# Altium schematic symbol library Microchip PIC12.SchLib: 457 symbols (part 6 of 15)
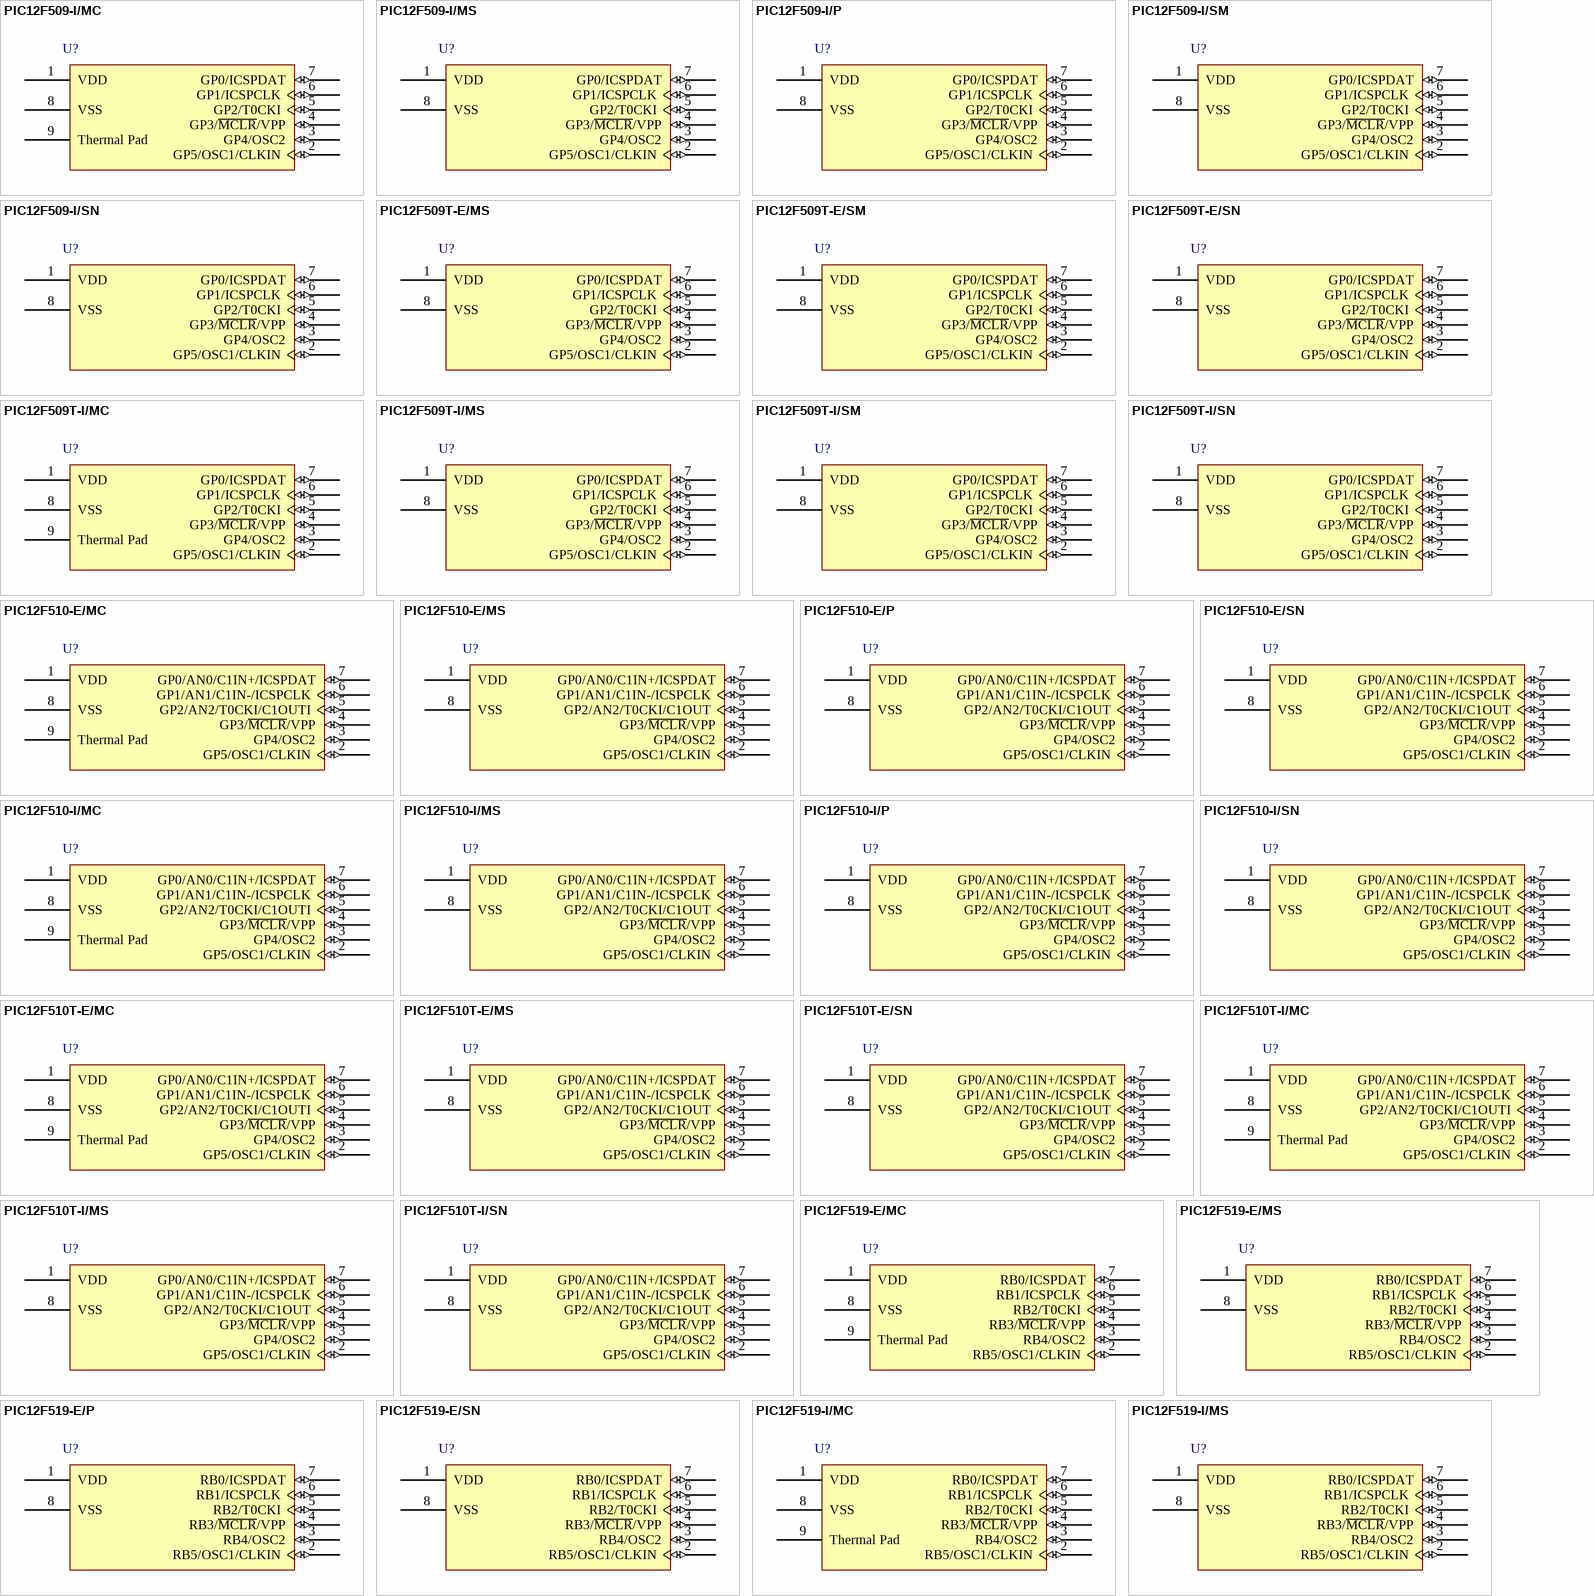
[diagram p20: symbols PIC12F509-I/MC to PIC12F519-I/MS]

## PIC12F509-I/SN
designator U?
8-bit Flash Microcontroller, 1K (x12-Bit words) Program Memory, 41 Bytes Data Memory, 8-Pin SOIC, Industrial Temperature; Manufacturer: Microchip; PartNumber: PIC12F509-I/SN; DatasheetVersion: revE, Aug-2009; PackageVersion: revBB, Aug-2009; PackageReference: SOIC-SN8; PackageDescription: 8-Lead Plastic Small Outline (SN) - Narrow, 3.90mm Body [SOIC]; Code_JEDEC: MS-012; Code_IPC: SOIC127P600-8; ComponentLink1Description: Manufacturer URL; ComponentLink1URL: http://www.microchip.com/; ComponentLink2Description: Datasheet; ComponentLink2URL: http://ww1.microchip.com/downloads/en/DeviceDoc/41236E.pdf; ComponentLink3Description: Package Specification; ComponentLink3URL: http://www.microchip.com/stellent/groups/techpub_sg/documents/packagingspec/en012702.pdf
footprint SOIC-SN8_N (SOIC, 8-Leads, Body 4.9x3.8mm, Pitch 1.27mm, IPC Medium Density)
footprint SOIC-SN8_L (SOIC, 8-Leads, Body 4.9x3.8mm, Pitch 1.27mm, IPC High Density)
footprint SOIC-SN8_M (SOIC, 8-Leads, Body 4.9x3.8mm, Pitch 1.27mm, IPC Low Density)
pins: 1 VDD (power), 2 GP5/OSC1/CLKIN (io), 3 GP4/OSC2 (io), 4 GP3/~{MCLR}/VPP (io), 5 GP2/T0CKI (io), 6 GP1/ICSPCLK (io), 7 GP0/ICSPDAT (io), 8 VSS (power)

## PIC12F509T-E/MS
designator U?
8-bit Flash Microcontroller, 1K (x12-Bit words) Program Memory, 41 Bytes Data Memory, 8-Pin MSOP, Extended Temperature, Tape and Reel; Manufacturer: Microchip; PartNumber: PIC12F509T-E/MS; DatasheetVersion: revE, Aug-2009; PackageVersion: revBB, Aug-2009; PackageReference: MSOP-MS8; PackageDescription: 8-Lead Plastic Micro Small Outline Package (MS) [MSOP]; ComponentLink1Description: Manufacturer URL; ComponentLink1URL: http://www.microchip.com/; ComponentLink2Description: Datasheet; ComponentLink2URL: http://ww1.microchip.com/downloads/en/DeviceDoc/41236E.pdf; ComponentLink3Description: Package Specification; ComponentLink3URL: http://www.microchip.com/stellent/groups/techpub_sg/documents/packagingspec/en012702.pdf
footprint MSOP-MS8_N (TSOP, 8-Leads, Body 3x3mm, Pitch 0.65mm, IPC Medium Density)
footprint MSOP-MS8_L (TSOP, 8-Leads, Body 3x3mm, Pitch 0.65mm, IPC High Density)
footprint MSOP-MS8_M (TSOP, 8-Leads, Body 3x3mm, Pitch 0.65mm, IPC Low Density)
pins: 1 VDD (power), 2 GP5/OSC1/CLKIN (io), 3 GP4/OSC2 (io), 4 GP3/~{MCLR}/VPP (io), 5 GP2/T0CKI (io), 6 GP1/ICSPCLK (io), 7 GP0/ICSPDAT (io), 8 VSS (power)

## PIC12F509T-E/SM
designator U?
8-bit Flash Microcontroller, 1K (x12-Bit words) Program Memory, 41 Bytes Data Memory, 8-Pin SOIC, Extended Temperature, Tape and Reel; Manufacturer: Microchip; PartNumber: PIC12F509T-E/SM; DatasheetVersion: revE, Aug-2009; PackageVersion: revBB, Aug-2009; PackageReference: SOIJ-SM8; PackageDescription: 8-Lead Plastic Small Outline (SM) - Medium, 5.28 mm Body [SOIJ]; ComponentLink1Description: Manufacturer URL; ComponentLink1URL: http://www.microchip.com/; ComponentLink2Description: Datasheet; ComponentLink2URL: http://ww1.microchip.com/downloads/en/DeviceDoc/41236E.pdf; ComponentLink3Description: Package Specification; ComponentLink3URL: http://www.microchip.com/stellent/groups/techpub_sg/documents/packagingspec/en012702.pdf
footprint SOIJ-SM8_N (SOP, 8-Leads, Body 5.2x5.2mm, Pitch 1.27mm, IPC Medium Density)
footprint SOIJ-SM8_L (SOP, 8-Leads, Body 5.2x5.2mm, Pitch 1.27mm, IPC High Density)
footprint SOIJ-SM8_M (SOP, 8-Leads, Body 5.2x5.2mm, Pitch 1.27mm, IPC Low Density)
pins: 1 VDD (power), 2 GP5/OSC1/CLKIN (io), 3 GP4/OSC2 (io), 4 GP3/~{MCLR}/VPP (io), 5 GP2/T0CKI (io), 6 GP1/ICSPCLK (io), 7 GP0/ICSPDAT (io), 8 VSS (power)

## PIC12F509T-E/SN
designator U?
8-bit Flash Microcontroller, 1K (x12-Bit words) Program Memory, 41 Bytes Data Memory, 8-Pin SOIC, Extended Temperature, Tape and Reel; Manufacturer: Microchip; PartNumber: PIC12F509T-E/SN; DatasheetVersion: revE, Aug-2009; PackageVersion: revBB, Aug-2009; PackageReference: SOIC-SN8; PackageDescription: 8-Lead Plastic Small Outline (SN) - Narrow, 3.90mm Body [SOIC]; Code_JEDEC: MS-012; Code_IPC: SOIC127P600-8; ComponentLink1Description: Manufacturer URL; ComponentLink1URL: http://www.microchip.com/; ComponentLink2Description: Datasheet; ComponentLink2URL: http://ww1.microchip.com/downloads/en/DeviceDoc/41236E.pdf; ComponentLink3Description: Package Specification; ComponentLink3URL: http://www.microchip.com/stellent/groups/techpub_sg/documents/packagingspec/en012702.pdf
footprint SOIC-SN8_N (SOIC, 8-Leads, Body 4.9x3.8mm, Pitch 1.27mm, IPC Medium Density)
footprint SOIC-SN8_L (SOIC, 8-Leads, Body 4.9x3.8mm, Pitch 1.27mm, IPC High Density)
footprint SOIC-SN8_M (SOIC, 8-Leads, Body 4.9x3.8mm, Pitch 1.27mm, IPC Low Density)
pins: 1 VDD (power), 2 GP5/OSC1/CLKIN (io), 3 GP4/OSC2 (io), 4 GP3/~{MCLR}/VPP (io), 5 GP2/T0CKI (io), 6 GP1/ICSPCLK (io), 7 GP0/ICSPDAT (io), 8 VSS (power)

## PIC12F509T-I/MC
designator U?
8-bit Flash Microcontroller, 1K (x12-Bit words) Program Memory, 41 Bytes Data Memory, 8-Pin DFN, Industrial Temperature, Tape and Reel; Manufacturer: Microchip; PartNumber: PIC12F509T-I/MC; DatasheetVersion: revE, Aug-2009; PackageVersion: revBB, Aug-2009; PackageReference: DFN-MC8; PackageDescription: 8-Lead Plastic Dual Flat, No Lead Package (MC) - 2x3x0.9mm Body [DFN]; ComponentLink1Description: Manufacturer URL; ComponentLink1URL: http://www.microchip.com/; ComponentLink2Description: Datasheet; ComponentLink2URL: http://ww1.microchip.com/downloads/en/DeviceDoc/41236E.pdf; ComponentLink3Description: Package Specification; ComponentLink3URL: http://www.microchip.com/stellent/groups/techpub_sg/documents/packagingspec/en012702.pdf
footprint DFN-MC8 (SON, 8-Leads, Body 2x3mm, Pitch 0.5mm, Microchip Recommended)
pins: 1 VDD (power), 2 GP5/OSC1/CLKIN (io), 3 GP4/OSC2 (io), 4 GP3/~{MCLR}/VPP (io), 5 GP2/T0CKI (io), 6 GP1/ICSPCLK (io), 7 GP0/ICSPDAT (io), 8 VSS (power), 9 Thermal Pad

## PIC12F509T-I/MS
designator U?
8-bit Flash Microcontroller, 1K (x12-Bit words) Program Memory, 41 Bytes Data Memory, 8-Pin MSOP, Industrial Temperature, Tape and Reel; Manufacturer: Microchip; PartNumber: PIC12F509T-I/MS; DatasheetVersion: revE, Aug-2009; PackageVersion: revBB, Aug-2009; PackageReference: MSOP-MS8; PackageDescription: 8-Lead Plastic Micro Small Outline Package (MS) [MSOP]; ComponentLink1Description: Manufacturer URL; ComponentLink1URL: http://www.microchip.com/; ComponentLink2Description: Datasheet; ComponentLink2URL: http://ww1.microchip.com/downloads/en/DeviceDoc/41236E.pdf; ComponentLink3Description: Package Specification; ComponentLink3URL: http://www.microchip.com/stellent/groups/techpub_sg/documents/packagingspec/en012702.pdf
footprint MSOP-MS8_N (TSOP, 8-Leads, Body 3x3mm, Pitch 0.65mm, IPC Medium Density)
footprint MSOP-MS8_L (TSOP, 8-Leads, Body 3x3mm, Pitch 0.65mm, IPC High Density)
footprint MSOP-MS8_M (TSOP, 8-Leads, Body 3x3mm, Pitch 0.65mm, IPC Low Density)
pins: 1 VDD (power), 2 GP5/OSC1/CLKIN (io), 3 GP4/OSC2 (io), 4 GP3/~{MCLR}/VPP (io), 5 GP2/T0CKI (io), 6 GP1/ICSPCLK (io), 7 GP0/ICSPDAT (io), 8 VSS (power)

## PIC12F509T-I/SM
designator U?
8-bit Flash Microcontroller, 1K (x12-Bit words) Program Memory, 41 Bytes Data Memory, 8-Pin SOIC, Industrial Temperature, Tape and Reel; Manufacturer: Microchip; PartNumber: PIC12F509T-I/SM; DatasheetVersion: revE, Aug-2009; PackageVersion: revBB, Aug-2009; PackageReference: SOIJ-SM8; PackageDescription: 8-Lead Plastic Small Outline (SM) - Medium, 5.28 mm Body [SOIJ]; ComponentLink1Description: Manufacturer URL; ComponentLink1URL: http://www.microchip.com/; ComponentLink2Description: Datasheet; ComponentLink2URL: http://ww1.microchip.com/downloads/en/DeviceDoc/41236E.pdf; ComponentLink3Description: Package Specification; ComponentLink3URL: http://www.microchip.com/stellent/groups/techpub_sg/documents/packagingspec/en012702.pdf
footprint SOIJ-SM8_N (SOP, 8-Leads, Body 5.2x5.2mm, Pitch 1.27mm, IPC Medium Density)
footprint SOIJ-SM8_L (SOP, 8-Leads, Body 5.2x5.2mm, Pitch 1.27mm, IPC High Density)
footprint SOIJ-SM8_M (SOP, 8-Leads, Body 5.2x5.2mm, Pitch 1.27mm, IPC Low Density)
pins: 1 VDD (power), 2 GP5/OSC1/CLKIN (io), 3 GP4/OSC2 (io), 4 GP3/~{MCLR}/VPP (io), 5 GP2/T0CKI (io), 6 GP1/ICSPCLK (io), 7 GP0/ICSPDAT (io), 8 VSS (power)

## PIC12F509T-I/SN
designator U?
8-bit Flash Microcontroller, 1K (x12-Bit words) Program Memory, 41 Bytes Data Memory, 8-Pin SOIC, Industrial Temperature, Tape and Reel; Manufacturer: Microchip; PartNumber: PIC12F509T-I/SN; DatasheetVersion: revE, Aug-2009; PackageVersion: revBB, Aug-2009; PackageReference: SOIC-SN8; PackageDescription: 8-Lead Plastic Small Outline (SN) - Narrow, 3.90mm Body [SOIC]; Code_JEDEC: MS-012; Code_IPC: SOIC127P600-8; ComponentLink1Description: Manufacturer URL; ComponentLink1URL: http://www.microchip.com/; ComponentLink2Description: Datasheet; ComponentLink2URL: http://ww1.microchip.com/downloads/en/DeviceDoc/41236E.pdf; ComponentLink3Description: Package Specification; ComponentLink3URL: http://www.microchip.com/stellent/groups/techpub_sg/documents/packagingspec/en012702.pdf
footprint SOIC-SN8_N (SOIC, 8-Leads, Body 4.9x3.8mm, Pitch 1.27mm, IPC Medium Density)
footprint SOIC-SN8_L (SOIC, 8-Leads, Body 4.9x3.8mm, Pitch 1.27mm, IPC High Density)
footprint SOIC-SN8_M (SOIC, 8-Leads, Body 4.9x3.8mm, Pitch 1.27mm, IPC Low Density)
pins: 1 VDD (power), 2 GP5/OSC1/CLKIN (io), 3 GP4/OSC2 (io), 4 GP3/~{MCLR}/VPP (io), 5 GP2/T0CKI (io), 6 GP1/ICSPCLK (io), 7 GP0/ICSPDAT (io), 8 VSS (power)

## PIC12F510-E/MC
designator U?
8-bit Flash Microcontroller, 1 K (x12-Bit words) Program Memory, 38 Bytes Data Memory, 8-Pin DFN, Extended Temperature; Manufacturer: Microchip; PartNumber: PIC12F510-E/MC; DatasheetVersion: revD, Nov-2007; PackageVersion: revBB, Aug-2009; PackageReference: DFN-MC8; PackageDescription: 8-Lead Plastic Dual Flat, No Lead Package (MC) - 2x3x0.9mm Body [DFN]; ComponentLink1Description: Manufacturer URL; ComponentLink1URL: http://www.microchip.com/; ComponentLink2Description: Datasheet; ComponentLink2URL: http://ww1.microchip.com/downloads/en/DeviceDoc/41268D.pdf; ComponentLink3Description: Package Specification; ComponentLink3URL: http://www.microchip.com/stellent/groups/techpub_sg/documents/packagingspec/en012702.pdf
footprint DFN-MC8 (SON, 8-Leads, Body 2x3mm, Pitch 0.5mm, Microchip Recommended)
pins: 1 VDD (power), 2 GP5/OSC1/CLKIN (io), 3 GP4/OSC2 (io), 4 GP3/~{MCLR}/VPP (io), 5 GP2/AN2/T0CKI/C1OUTI (io), 6 GP1/AN1/C1IN-/ICSPCLK (io), 7 GP0/AN0/C1IN+/ICSPDAT (io), 8 VSS (power), 9 Thermal Pad

## PIC12F510-E/MS
designator U?
8-bit Flash Microcontroller, 1 K (x12-Bit words) Program Memory, 38 Bytes Data Memory, 8-Pin MSOP, Extended Temperature; Manufacturer: Microchip; PartNumber: PIC12F510-E/MS; DatasheetVersion: revD, Nov-2007; PackageVersion: revBB, Aug-2009; PackageReference: MSOP-MS8; PackageDescription: 8-Lead Plastic Micro Small Outline Package (MS) [MSOP]; ComponentLink1Description: Manufacturer URL; ComponentLink1URL: http://www.microchip.com/; ComponentLink2Description: Datasheet; ComponentLink2URL: http://ww1.microchip.com/downloads/en/DeviceDoc/41268D.pdf; ComponentLink3Description: Package Specification; ComponentLink3URL: http://www.microchip.com/stellent/groups/techpub_sg/documents/packagingspec/en012702.pdf
footprint MSOP-MS8_N (TSOP, 8-Leads, Body 3x3mm, Pitch 0.65mm, IPC Medium Density)
footprint MSOP-MS8_L (TSOP, 8-Leads, Body 3x3mm, Pitch 0.65mm, IPC High Density)
footprint MSOP-MS8_M (TSOP, 8-Leads, Body 3x3mm, Pitch 0.65mm, IPC Low Density)
pins: 1 VDD (power), 2 GP5/OSC1/CLKIN (io), 3 GP4/OSC2 (io), 4 GP3/~{MCLR}/VPP (io), 5 GP2/AN2/T0CKI/C1OUT (io), 6 GP1/AN1/C1IN-/ICSPCLK (io), 7 GP0/AN0/C1IN+/ICSPDAT (io), 8 VSS (power)

## PIC12F510-E/P
designator U?
8-bit Flash Microcontroller, 1 K (x12-Bit words) Program Memory, 38 Bytes Data Memory, 8-Pin PDIP, Extended Temperature; Manufacturer: Microchip; PartNumber: PIC12F510-E/P; DatasheetVersion: revD, Nov-2007; PackageVersion: revBB, Aug-2009; PackageReference: PDIP300-P8; PackageDescription: 8-Lead Plastic Dual In-Line (P) - 300 mil Body [PDIP]; Code_JEDEC: MS-001; ComponentLink1Description: Manufacturer URL; ComponentLink1URL: http://www.microchip.com/; ComponentLink2Description: Datasheet; ComponentLink2URL: http://ww1.microchip.com/downloads/en/DeviceDoc/41268D.pdf; ComponentLink3Description: Package Specification; ComponentLink3URL: http://www.microchip.com/stellent/groups/techpub_sg/documents/packagingspec/en012702.pdf
footprint PDIP300-P8 (DIP, 8-Leads, Row Spacing 7.62mm, Pitch 2.54mm, Body 9.5x6.6mm)
pins: 1 VDD (power), 2 GP5/OSC1/CLKIN (io), 3 GP4/OSC2 (io), 4 GP3/~{MCLR}/VPP (io), 5 GP2/AN2/T0CKI/C1OUT (io), 6 GP1/AN1/C1IN-/ICSPCLK (io), 7 GP0/AN0/C1IN+/ICSPDAT (io), 8 VSS (power)

## PIC12F510-E/SN
designator U?
8-bit Flash Microcontroller, 1 K (x12-Bit words) Program Memory, 38 Bytes Data Memory, 8-Pin SOIC, Extended Temperature; Manufacturer: Microchip; PartNumber: PIC12F510-E/SN; DatasheetVersion: revD, Nov-2007; PackageVersion: revBB, Aug-2009; PackageReference: SOIC-SN8; PackageDescription: 8-Lead Plastic Small Outline (SN) - Narrow, 3.90mm Body [SOIC]; Code_JEDEC: MS-012; Code_IPC: SOIC127P600-8; ComponentLink1Description: Manufacturer URL; ComponentLink1URL: http://www.microchip.com/; ComponentLink2Description: Datasheet; ComponentLink2URL: http://ww1.microchip.com/downloads/en/DeviceDoc/41268D.pdf; ComponentLink3Description: Package Specification; ComponentLink3URL: http://www.microchip.com/stellent/groups/techpub_sg/documents/packagingspec/en012702.pdf
footprint SOIC-SN8_N (SOIC, 8-Leads, Body 4.9x3.8mm, Pitch 1.27mm, IPC Medium Density)
footprint SOIC-SN8_L (SOIC, 8-Leads, Body 4.9x3.8mm, Pitch 1.27mm, IPC High Density)
footprint SOIC-SN8_M (SOIC, 8-Leads, Body 4.9x3.8mm, Pitch 1.27mm, IPC Low Density)
pins: 1 VDD (power), 2 GP5/OSC1/CLKIN (io), 3 GP4/OSC2 (io), 4 GP3/~{MCLR}/VPP (io), 5 GP2/AN2/T0CKI/C1OUT (io), 6 GP1/AN1/C1IN-/ICSPCLK (io), 7 GP0/AN0/C1IN+/ICSPDAT (io), 8 VSS (power)

## PIC12F510-I/MC
designator U?
8-bit Flash Microcontroller, 1 K (x12-Bit words) Program Memory, 38 Bytes Data Memory, 8-Pin DFN, Industrial Temperature; Manufacturer: Microchip; PartNumber: PIC12F510-I/MC; DatasheetVersion: revD, Nov-2007; PackageVersion: revBB, Aug-2009; PackageReference: DFN-MC8; PackageDescription: 8-Lead Plastic Dual Flat, No Lead Package (MC) - 2x3x0.9mm Body [DFN]; ComponentLink1Description: Manufacturer URL; ComponentLink1URL: http://www.microchip.com/; ComponentLink2Description: Datasheet; ComponentLink2URL: http://ww1.microchip.com/downloads/en/DeviceDoc/41268D.pdf; ComponentLink3Description: Package Specification; ComponentLink3URL: http://www.microchip.com/stellent/groups/techpub_sg/documents/packagingspec/en012702.pdf
footprint DFN-MC8 (SON, 8-Leads, Body 2x3mm, Pitch 0.5mm, Microchip Recommended)
pins: 1 VDD (power), 2 GP5/OSC1/CLKIN (io), 3 GP4/OSC2 (io), 4 GP3/~{MCLR}/VPP (io), 5 GP2/AN2/T0CKI/C1OUTI (io), 6 GP1/AN1/C1IN-/ICSPCLK (io), 7 GP0/AN0/C1IN+/ICSPDAT (io), 8 VSS (power), 9 Thermal Pad

## PIC12F510-I/MS
designator U?
8-bit Flash Microcontroller, 1 K (x12-Bit words) Program Memory, 38 Bytes Data Memory, 8-Pin MSOP, Industrial Temperature; Manufacturer: Microchip; PartNumber: PIC12F510-I/MS; DatasheetVersion: revD, Nov-2007; PackageVersion: revBB, Aug-2009; PackageReference: MSOP-MS8; PackageDescription: 8-Lead Plastic Micro Small Outline Package (MS) [MSOP]; ComponentLink1Description: Manufacturer URL; ComponentLink1URL: http://www.microchip.com/; ComponentLink2Description: Datasheet; ComponentLink2URL: http://ww1.microchip.com/downloads/en/DeviceDoc/41268D.pdf; ComponentLink3Description: Package Specification; ComponentLink3URL: http://www.microchip.com/stellent/groups/techpub_sg/documents/packagingspec/en012702.pdf
footprint MSOP-MS8_N (TSOP, 8-Leads, Body 3x3mm, Pitch 0.65mm, IPC Medium Density)
footprint MSOP-MS8_L (TSOP, 8-Leads, Body 3x3mm, Pitch 0.65mm, IPC High Density)
footprint MSOP-MS8_M (TSOP, 8-Leads, Body 3x3mm, Pitch 0.65mm, IPC Low Density)
pins: 1 VDD (power), 2 GP5/OSC1/CLKIN (io), 3 GP4/OSC2 (io), 4 GP3/~{MCLR}/VPP (io), 5 GP2/AN2/T0CKI/C1OUT (io), 6 GP1/AN1/C1IN-/ICSPCLK (io), 7 GP0/AN0/C1IN+/ICSPDAT (io), 8 VSS (power)

## PIC12F510-I/P
designator U?
8-bit Flash Microcontroller, 1 K (x12-Bit words) Program Memory, 38 Bytes Data Memory, 8-Pin PDIP, Industrial Temperature; Manufacturer: Microchip; PartNumber: PIC12F510-I/P; DatasheetVersion: revD, Nov-2007; PackageVersion: revBB, Aug-2009; PackageReference: PDIP300-P8; PackageDescription: 8-Lead Plastic Dual In-Line (P) - 300 mil Body [PDIP]; Code_JEDEC: MS-001; ComponentLink1Description: Manufacturer URL; ComponentLink1URL: http://www.microchip.com/; ComponentLink2Description: Datasheet; ComponentLink2URL: http://ww1.microchip.com/downloads/en/DeviceDoc/41268D.pdf; ComponentLink3Description: Package Specification; ComponentLink3URL: http://www.microchip.com/stellent/groups/techpub_sg/documents/packagingspec/en012702.pdf
footprint PDIP300-P8 (DIP, 8-Leads, Row Spacing 7.62mm, Pitch 2.54mm, Body 9.5x6.6mm)
pins: 1 VDD (power), 2 GP5/OSC1/CLKIN (io), 3 GP4/OSC2 (io), 4 GP3/~{MCLR}/VPP (io), 5 GP2/AN2/T0CKI/C1OUT (io), 6 GP1/AN1/C1IN-/ICSPCLK (io), 7 GP0/AN0/C1IN+/ICSPDAT (io), 8 VSS (power)

## PIC12F510-I/SN
designator U?
8-bit Flash Microcontroller, 1 K (x12-Bit words) Program Memory, 38 Bytes Data Memory, 8-Pin SOIC, Industrial Temperature; Manufacturer: Microchip; PartNumber: PIC12F510-I/SN; DatasheetVersion: revD, Nov-2007; PackageVersion: revBB, Aug-2009; PackageReference: SOIC-SN8; PackageDescription: 8-Lead Plastic Small Outline (SN) - Narrow, 3.90mm Body [SOIC]; Code_JEDEC: MS-012; Code_IPC: SOIC127P600-8; ComponentLink1Description: Manufacturer URL; ComponentLink1URL: http://www.microchip.com/; ComponentLink2Description: Datasheet; ComponentLink2URL: http://ww1.microchip.com/downloads/en/DeviceDoc/41268D.pdf; ComponentLink3Description: Package Specification; ComponentLink3URL: http://www.microchip.com/stellent/groups/techpub_sg/documents/packagingspec/en012702.pdf
footprint SOIC-SN8_N (SOIC, 8-Leads, Body 4.9x3.8mm, Pitch 1.27mm, IPC Medium Density)
footprint SOIC-SN8_L (SOIC, 8-Leads, Body 4.9x3.8mm, Pitch 1.27mm, IPC High Density)
footprint SOIC-SN8_M (SOIC, 8-Leads, Body 4.9x3.8mm, Pitch 1.27mm, IPC Low Density)
pins: 1 VDD (power), 2 GP5/OSC1/CLKIN (io), 3 GP4/OSC2 (io), 4 GP3/~{MCLR}/VPP (io), 5 GP2/AN2/T0CKI/C1OUT (io), 6 GP1/AN1/C1IN-/ICSPCLK (io), 7 GP0/AN0/C1IN+/ICSPDAT (io), 8 VSS (power)

## PIC12F510T-E/MC
designator U?
8-bit Flash Microcontroller, 1 K (x12-Bit words) Program Memory, 38 Bytes Data Memory, 8-Pin DFN, Extended Temperature, Tape and Reel; Manufacturer: Microchip; PartNumber: PIC12F510T-E/MC; DatasheetVersion: revD, Nov-2007; PackageVersion: revBB, Aug-2009; PackageReference: DFN-MC8; PackageDescription: 8-Lead Plastic Dual Flat, No Lead Package (MC) - 2x3x0.9mm Body [DFN]; ComponentLink1Description: Manufacturer URL; ComponentLink1URL: http://www.microchip.com/; ComponentLink2Description: Datasheet; ComponentLink2URL: http://ww1.microchip.com/downloads/en/DeviceDoc/41268D.pdf; ComponentLink3Description: Package Specification; ComponentLink3URL: http://www.microchip.com/stellent/groups/techpub_sg/documents/packagingspec/en012702.pdf
footprint DFN-MC8 (SON, 8-Leads, Body 2x3mm, Pitch 0.5mm, Microchip Recommended)
pins: 1 VDD (power), 2 GP5/OSC1/CLKIN (io), 3 GP4/OSC2 (io), 4 GP3/~{MCLR}/VPP (io), 5 GP2/AN2/T0CKI/C1OUTI (io), 6 GP1/AN1/C1IN-/ICSPCLK (io), 7 GP0/AN0/C1IN+/ICSPDAT (io), 8 VSS (power), 9 Thermal Pad

## PIC12F510T-E/MS
designator U?
8-bit Flash Microcontroller, 1 K (x12-Bit words) Program Memory, 38 Bytes Data Memory, 8-Pin MSOP, Extended Temperature, Tape and Reel; Manufacturer: Microchip; PartNumber: PIC12F510T-E/MS; DatasheetVersion: revD, Nov-2007; PackageVersion: revBB, Aug-2009; PackageReference: MSOP-MS8; PackageDescription: 8-Lead Plastic Micro Small Outline Package (MS) [MSOP]; ComponentLink1Description: Manufacturer URL; ComponentLink1URL: http://www.microchip.com/; ComponentLink2Description: Datasheet; ComponentLink2URL: http://ww1.microchip.com/downloads/en/DeviceDoc/41268D.pdf; ComponentLink3Description: Package Specification; ComponentLink3URL: http://www.microchip.com/stellent/groups/techpub_sg/documents/packagingspec/en012702.pdf
footprint MSOP-MS8_N (TSOP, 8-Leads, Body 3x3mm, Pitch 0.65mm, IPC Medium Density)
footprint MSOP-MS8_L (TSOP, 8-Leads, Body 3x3mm, Pitch 0.65mm, IPC High Density)
footprint MSOP-MS8_M (TSOP, 8-Leads, Body 3x3mm, Pitch 0.65mm, IPC Low Density)
pins: 1 VDD (power), 2 GP5/OSC1/CLKIN (io), 3 GP4/OSC2 (io), 4 GP3/~{MCLR}/VPP (io), 5 GP2/AN2/T0CKI/C1OUT (io), 6 GP1/AN1/C1IN-/ICSPCLK (io), 7 GP0/AN0/C1IN+/ICSPDAT (io), 8 VSS (power)

## PIC12F510T-E/SN
designator U?
8-bit Flash Microcontroller, 1 K (x12-Bit words) Program Memory, 38 Bytes Data Memory, 8-Pin SOIC, Extended Temperature, Tape and Reel; Manufacturer: Microchip; PartNumber: PIC12F510T-E/SN; DatasheetVersion: revD, Nov-2007; PackageVersion: revBB, Aug-2009; PackageReference: SOIC-SN8; PackageDescription: 8-Lead Plastic Small Outline (SN) - Narrow, 3.90mm Body [SOIC]; Code_JEDEC: MS-012; Code_IPC: SOIC127P600-8; ComponentLink1Description: Manufacturer URL; ComponentLink1URL: http://www.microchip.com/; ComponentLink2Description: Datasheet; ComponentLink2URL: http://ww1.microchip.com/downloads/en/DeviceDoc/41268D.pdf; ComponentLink3Description: Package Specification; ComponentLink3URL: http://www.microchip.com/stellent/groups/techpub_sg/documents/packagingspec/en012702.pdf
footprint SOIC-SN8_N (SOIC, 8-Leads, Body 4.9x3.8mm, Pitch 1.27mm, IPC Medium Density)
footprint SOIC-SN8_L (SOIC, 8-Leads, Body 4.9x3.8mm, Pitch 1.27mm, IPC High Density)
footprint SOIC-SN8_M (SOIC, 8-Leads, Body 4.9x3.8mm, Pitch 1.27mm, IPC Low Density)
pins: 1 VDD (power), 2 GP5/OSC1/CLKIN (io), 3 GP4/OSC2 (io), 4 GP3/~{MCLR}/VPP (io), 5 GP2/AN2/T0CKI/C1OUT (io), 6 GP1/AN1/C1IN-/ICSPCLK (io), 7 GP0/AN0/C1IN+/ICSPDAT (io), 8 VSS (power)

## PIC12F510T-I/MC
designator U?
8-bit Flash Microcontroller, 1 K (x12-Bit words) Program Memory, 38 Bytes Data Memory, 8-Pin DFN, Industrial Temperature, Tape and Reel; Manufacturer: Microchip; PartNumber: PIC12F510T-I/MC; DatasheetVersion: revD, Nov-2007; PackageVersion: revBB, Aug-2009; PackageReference: DFN-MC8; PackageDescription: 8-Lead Plastic Dual Flat, No Lead Package (MC) - 2x3x0.9mm Body [DFN]; ComponentLink1Description: Manufacturer URL; ComponentLink1URL: http://www.microchip.com/; ComponentLink2Description: Datasheet; ComponentLink2URL: http://ww1.microchip.com/downloads/en/DeviceDoc/41268D.pdf; ComponentLink3Description: Package Specification; ComponentLink3URL: http://www.microchip.com/stellent/groups/techpub_sg/documents/packagingspec/en012702.pdf
footprint DFN-MC8 (SON, 8-Leads, Body 2x3mm, Pitch 0.5mm, Microchip Recommended)
pins: 1 VDD (power), 2 GP5/OSC1/CLKIN (io), 3 GP4/OSC2 (io), 4 GP3/~{MCLR}/VPP (io), 5 GP2/AN2/T0CKI/C1OUTI (io), 6 GP1/AN1/C1IN-/ICSPCLK (io), 7 GP0/AN0/C1IN+/ICSPDAT (io), 8 VSS (power), 9 Thermal Pad

## PIC12F510T-I/MS
designator U?
8-bit Flash Microcontroller, 1 K (x12-Bit words) Program Memory, 38 Bytes Data Memory, 8-Pin MSOP, Industrial Temperature, Tape and Reel; Manufacturer: Microchip; PartNumber: PIC12F510T-I/MS; DatasheetVersion: revD, Nov-2007; PackageVersion: revBB, Aug-2009; PackageReference: MSOP-MS8; PackageDescription: 8-Lead Plastic Micro Small Outline Package (MS) [MSOP]; ComponentLink1Description: Manufacturer URL; ComponentLink1URL: http://www.microchip.com/; ComponentLink2Description: Datasheet; ComponentLink2URL: http://ww1.microchip.com/downloads/en/DeviceDoc/41268D.pdf; ComponentLink3Description: Package Specification; ComponentLink3URL: http://www.microchip.com/stellent/groups/techpub_sg/documents/packagingspec/en012702.pdf
footprint MSOP-MS8_N (TSOP, 8-Leads, Body 3x3mm, Pitch 0.65mm, IPC Medium Density)
footprint MSOP-MS8_L (TSOP, 8-Leads, Body 3x3mm, Pitch 0.65mm, IPC High Density)
footprint MSOP-MS8_M (TSOP, 8-Leads, Body 3x3mm, Pitch 0.65mm, IPC Low Density)
pins: 1 VDD (power), 2 GP5/OSC1/CLKIN (io), 3 GP4/OSC2 (io), 4 GP3/~{MCLR}/VPP (io), 5 GP2/AN2/T0CKI/C1OUT (io), 6 GP1/AN1/C1IN-/ICSPCLK (io), 7 GP0/AN0/C1IN+/ICSPDAT (io), 8 VSS (power)

## PIC12F510T-I/SN
designator U?
8-bit Flash Microcontroller, 1 K (x12-Bit words) Program Memory, 38 Bytes Data Memory, 8-Pin SOIC, Industrial Temperature, Tape and Reel; Manufacturer: Microchip; PartNumber: PIC12F510T-I/SN; DatasheetVersion: revD, Nov-2007; PackageVersion: revBB, Aug-2009; PackageReference: SOIC-SN8; PackageDescription: 8-Lead Plastic Small Outline (SN) - Narrow, 3.90mm Body [SOIC]; Code_JEDEC: MS-012; Code_IPC: SOIC127P600-8; ComponentLink1Description: Manufacturer URL; ComponentLink1URL: http://www.microchip.com/; ComponentLink2Description: Datasheet; ComponentLink2URL: http://ww1.microchip.com/downloads/en/DeviceDoc/41268D.pdf; ComponentLink3Description: Package Specification; ComponentLink3URL: http://www.microchip.com/stellent/groups/techpub_sg/documents/packagingspec/en012702.pdf
footprint SOIC-SN8_N (SOIC, 8-Leads, Body 4.9x3.8mm, Pitch 1.27mm, IPC Medium Density)
footprint SOIC-SN8_L (SOIC, 8-Leads, Body 4.9x3.8mm, Pitch 1.27mm, IPC High Density)
footprint SOIC-SN8_M (SOIC, 8-Leads, Body 4.9x3.8mm, Pitch 1.27mm, IPC Low Density)
pins: 1 VDD (power), 2 GP5/OSC1/CLKIN (io), 3 GP4/OSC2 (io), 4 GP3/~{MCLR}/VPP (io), 5 GP2/AN2/T0CKI/C1OUT (io), 6 GP1/AN1/C1IN-/ICSPCLK (io), 7 GP0/AN0/C1IN+/ICSPDAT (io), 8 VSS (power)

## PIC12F519-E/MC
designator U?
8-bit Flash Microcontroller, 1K (x12-Bit words) Program Memory, 105 Bytes Data Memory, 8-Pin DFN, Extended Temperature; Manufacturer: Microchip; PartNumber: PIC12F519-E/MC; DatasheetVersion: revB, Sep-2008; PackageVersion: revBB, Aug-2009; PackageReference: DFN-MC8; PackageDescription: 8-Lead Plastic Dual Flat, No Lead Package (MC) - 2x3x0.9mm Body [DFN]; ComponentLink1Description: Manufacturer URL; ComponentLink1URL: http://www.microchip.com/; ComponentLink2Description: Datasheet; ComponentLink2URL: http://ww1.microchip.com/downloads/en/DeviceDoc/41319B.pdf; ComponentLink3Description: Package Specification; ComponentLink3URL: http://www.microchip.com/stellent/groups/techpub_sg/documents/packagingspec/en012702.pdf
footprint DFN-MC8 (SON, 8-Leads, Body 2x3mm, Pitch 0.5mm, Microchip Recommended)
pins: 1 VDD (power), 2 RB5/OSC1/CLKIN (io), 3 RB4/OSC2 (io), 4 RB3/~{MCLR}/VPP (io), 5 RB2/T0CKI (io), 6 RB1/ICSPCLK (io), 7 RB0/ICSPDAT (io), 8 VSS (power), 9 Thermal Pad

## PIC12F519-E/MS
designator U?
8-bit Flash Microcontroller, 1K (x12-Bit words) Program Memory, 105 Bytes Data Memory, 8-Pin MSOP, Extended Temperature; Manufacturer: Microchip; PartNumber: PIC12F519-E/MS; DatasheetVersion: revB, Sep-2008; PackageVersion: revBB, Aug-2009; PackageReference: MSOP-MS8; PackageDescription: 8-Lead Plastic Micro Small Outline Package (MS) [MSOP]; ComponentLink1Description: Manufacturer URL; ComponentLink1URL: http://www.microchip.com/; ComponentLink2Description: Datasheet; ComponentLink2URL: http://ww1.microchip.com/downloads/en/DeviceDoc/41319B.pdf; ComponentLink3Description: Package Specification; ComponentLink3URL: http://www.microchip.com/stellent/groups/techpub_sg/documents/packagingspec/en012702.pdf
footprint MSOP-MS8_N (TSOP, 8-Leads, Body 3x3mm, Pitch 0.65mm, IPC Medium Density)
footprint MSOP-MS8_L (TSOP, 8-Leads, Body 3x3mm, Pitch 0.65mm, IPC High Density)
footprint MSOP-MS8_M (TSOP, 8-Leads, Body 3x3mm, Pitch 0.65mm, IPC Low Density)
pins: 1 VDD (power), 2 RB5/OSC1/CLKIN (io), 3 RB4/OSC2 (io), 4 RB3/~{MCLR}/VPP (io), 5 RB2/T0CKI (io), 6 RB1/ICSPCLK (io), 7 RB0/ICSPDAT (io), 8 VSS (power)

## PIC12F519-E/P
designator U?
8-bit Flash Microcontroller, 1K (x12-Bit words) Program Memory, 105 Bytes Data Memory, 8-Pin PDIP, Extended Temperature; Manufacturer: Microchip; PartNumber: PIC12F519-E/P; DatasheetVersion: revB, Sep-2008; PackageVersion: revBB, Aug-2009; PackageReference: PDIP300-P8; PackageDescription: 8-Lead Plastic Dual In-Line (P) - 300 mil Body [PDIP]; Code_JEDEC: MS-001; ComponentLink1Description: Manufacturer URL; ComponentLink1URL: http://www.microchip.com/; ComponentLink2Description: Datasheet; ComponentLink2URL: http://ww1.microchip.com/downloads/en/DeviceDoc/41319B.pdf; ComponentLink3Description: Package Specification; ComponentLink3URL: http://www.microchip.com/stellent/groups/techpub_sg/documents/packagingspec/en012702.pdf
footprint PDIP300-P8 (DIP, 8-Leads, Row Spacing 7.62mm, Pitch 2.54mm, Body 9.5x6.6mm)
pins: 1 VDD (power), 2 RB5/OSC1/CLKIN (io), 3 RB4/OSC2 (io), 4 RB3/~{MCLR}/VPP (io), 5 RB2/T0CKI (io), 6 RB1/ICSPCLK (io), 7 RB0/ICSPDAT (io), 8 VSS (power)

## PIC12F519-E/SN
designator U?
8-bit Flash Microcontroller, 1K (x12-Bit words) Program Memory, 105 Bytes Data Memory, 8-Pin SOIC, Extended Temperature; Manufacturer: Microchip; PartNumber: PIC12F519-E/SN; DatasheetVersion: revB, Sep-2008; PackageVersion: revBB, Aug-2009; PackageReference: SOIC-SN8; PackageDescription: 8-Lead Plastic Small Outline (SN) - Narrow, 3.90mm Body [SOIC]; Code_JEDEC: MS-012; Code_IPC: SOIC127P600-8; ComponentLink1Description: Manufacturer URL; ComponentLink1URL: http://www.microchip.com/; ComponentLink2Description: Datasheet; ComponentLink2URL: http://ww1.microchip.com/downloads/en/DeviceDoc/41319B.pdf; ComponentLink3Description: Package Specification; ComponentLink3URL: http://www.microchip.com/stellent/groups/techpub_sg/documents/packagingspec/en012702.pdf
footprint SOIC-SN8_N (SOIC, 8-Leads, Body 4.9x3.8mm, Pitch 1.27mm, IPC Medium Density)
footprint SOIC-SN8_L (SOIC, 8-Leads, Body 4.9x3.8mm, Pitch 1.27mm, IPC High Density)
footprint SOIC-SN8_M (SOIC, 8-Leads, Body 4.9x3.8mm, Pitch 1.27mm, IPC Low Density)
pins: 1 VDD (power), 2 RB5/OSC1/CLKIN (io), 3 RB4/OSC2 (io), 4 RB3/~{MCLR}/VPP (io), 5 RB2/T0CKI (io), 6 RB1/ICSPCLK (io), 7 RB0/ICSPDAT (io), 8 VSS (power)

## PIC12F519-I/MC
designator U?
8-bit Flash Microcontroller, 1K (x12-Bit words) Program Memory, 105 Bytes Data Memory, 8-Pin DFN, Industrial Temperature; Manufacturer: Microchip; PartNumber: PIC12F519-I/MC; DatasheetVersion: revB, Sep-2008; PackageVersion: revBB, Aug-2009; PackageReference: DFN-MC8; PackageDescription: 8-Lead Plastic Dual Flat, No Lead Package (MC) - 2x3x0.9mm Body [DFN]; ComponentLink1Description: Manufacturer URL; ComponentLink1URL: http://www.microchip.com/; ComponentLink2Description: Datasheet; ComponentLink2URL: http://ww1.microchip.com/downloads/en/DeviceDoc/41319B.pdf; ComponentLink3Description: Package Specification; ComponentLink3URL: http://www.microchip.com/stellent/groups/techpub_sg/documents/packagingspec/en012702.pdf
footprint DFN-MC8 (SON, 8-Leads, Body 2x3mm, Pitch 0.5mm, Microchip Recommended)
pins: 1 VDD (power), 2 RB5/OSC1/CLKIN (io), 3 RB4/OSC2 (io), 4 RB3/~{MCLR}/VPP (io), 5 RB2/T0CKI (io), 6 RB1/ICSPCLK (io), 7 RB0/ICSPDAT (io), 8 VSS (power), 9 Thermal Pad

## PIC12F519-I/MS
designator U?
8-bit Flash Microcontroller, 1K (x12-Bit words) Program Memory, 105 Bytes Data Memory, 8-Pin MSOP, Industrial Temperature; Manufacturer: Microchip; PartNumber: PIC12F519-I/MS; DatasheetVersion: revB, Sep-2008; PackageVersion: revBB, Aug-2009; PackageReference: MSOP-MS8; PackageDescription: 8-Lead Plastic Micro Small Outline Package (MS) [MSOP]; ComponentLink1Description: Manufacturer URL; ComponentLink1URL: http://www.microchip.com/; ComponentLink2Description: Datasheet; ComponentLink2URL: http://ww1.microchip.com/downloads/en/DeviceDoc/41319B.pdf; ComponentLink3Description: Package Specification; ComponentLink3URL: http://www.microchip.com/stellent/groups/techpub_sg/documents/packagingspec/en012702.pdf
footprint MSOP-MS8_N (TSOP, 8-Leads, Body 3x3mm, Pitch 0.65mm, IPC Medium Density)
footprint MSOP-MS8_L (TSOP, 8-Leads, Body 3x3mm, Pitch 0.65mm, IPC High Density)
footprint MSOP-MS8_M (TSOP, 8-Leads, Body 3x3mm, Pitch 0.65mm, IPC Low Density)
pins: 1 VDD (power), 2 RB5/OSC1/CLKIN (io), 3 RB4/OSC2 (io), 4 RB3/~{MCLR}/VPP (io), 5 RB2/T0CKI (io), 6 RB1/ICSPCLK (io), 7 RB0/ICSPDAT (io), 8 VSS (power)

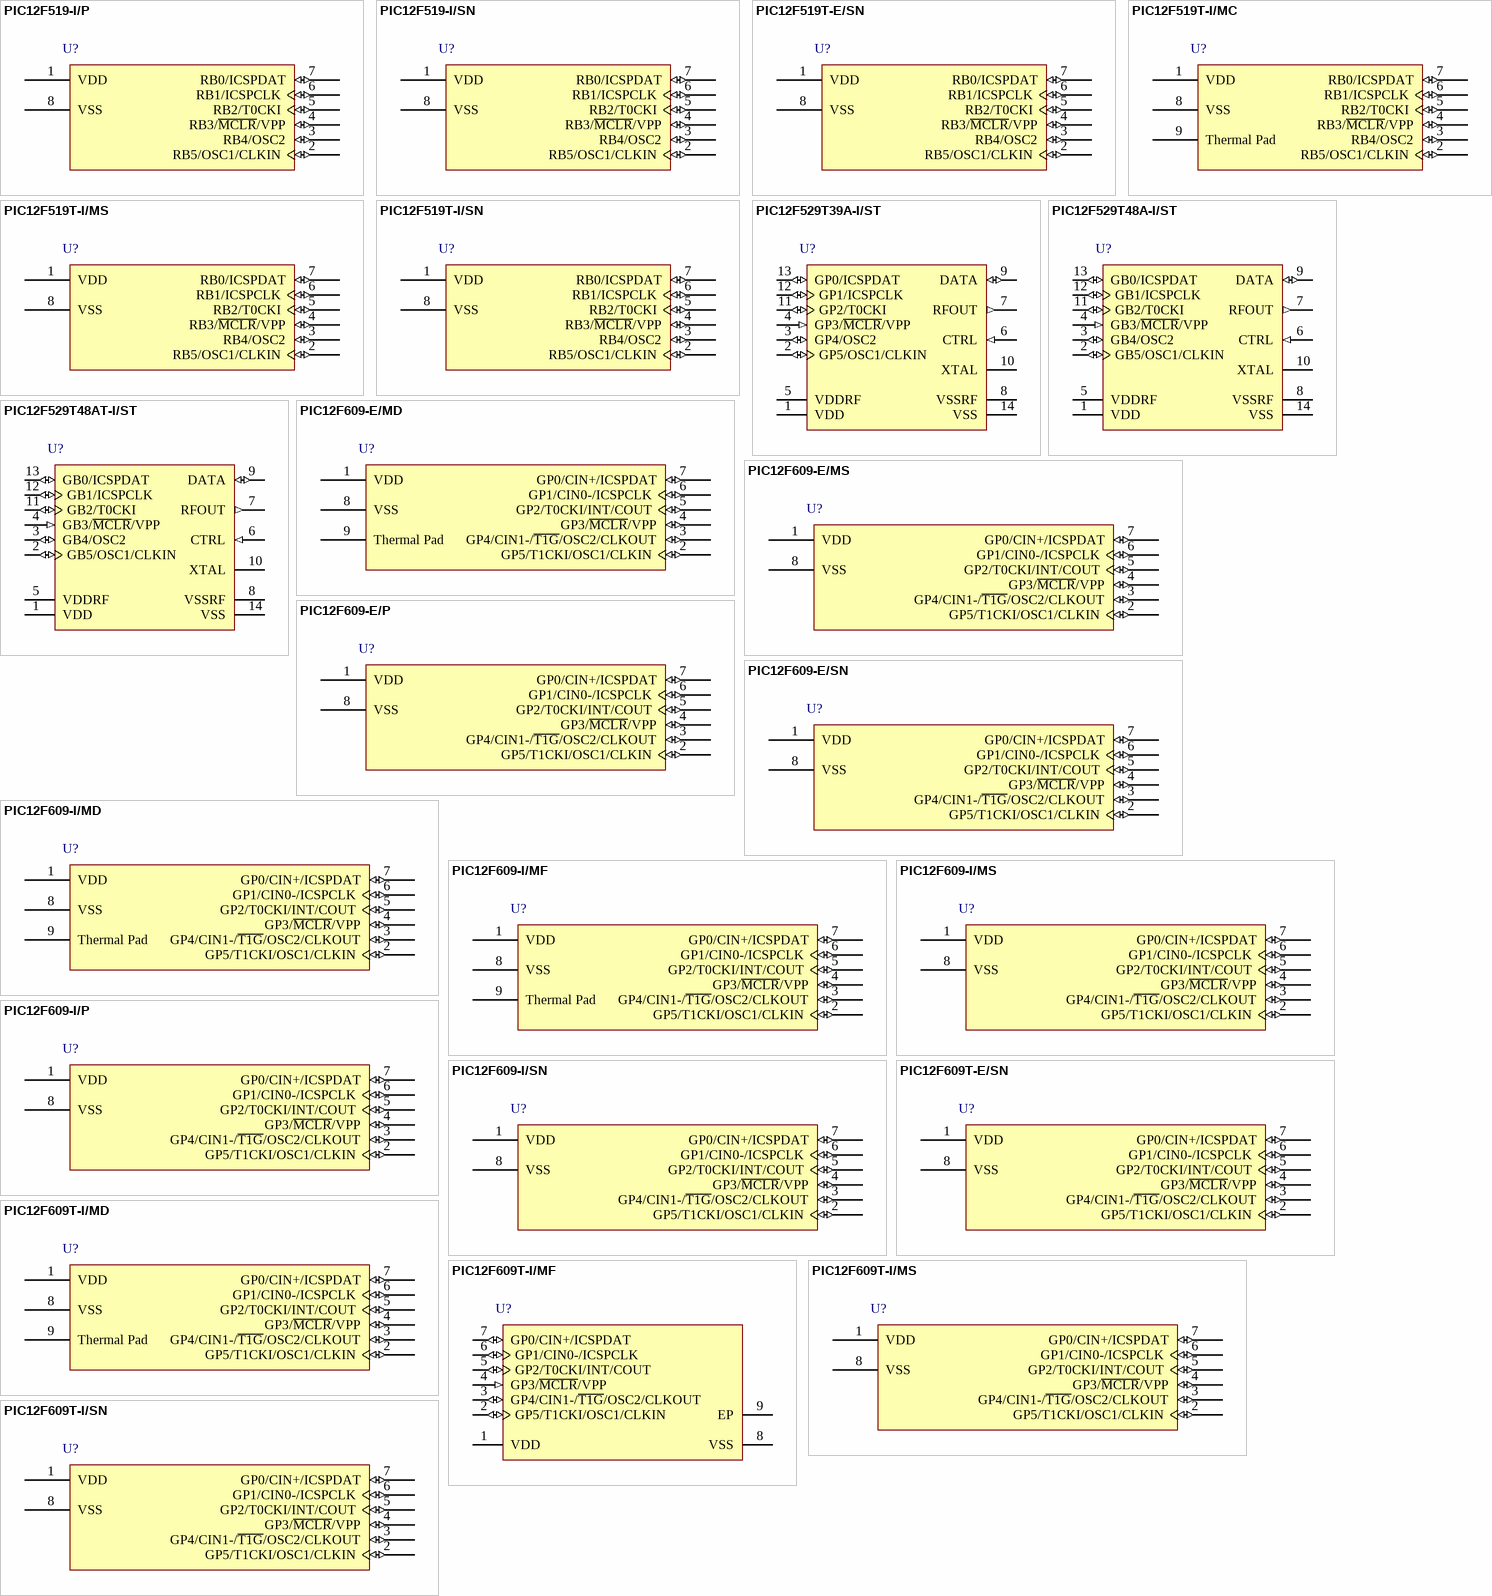
[diagram p5: symbols PIC12F519-I/P to PIC12F609T-I/SN]

## PIC12F519-I/P
designator U?
8-bit Flash Microcontroller, 1K (x12-Bit words) Program Memory, 105 Bytes Data Memory, 8-Pin PDIP, Industrial Temperature; Manufacturer: Microchip; PartNumber: PIC12F519-I/P; DatasheetVersion: revB, Sep-2008; PackageVersion: revBB, Aug-2009; PackageReference: PDIP300-P8; PackageDescription: 8-Lead Plastic Dual In-Line (P) - 300 mil Body [PDIP]; Code_JEDEC: MS-001; ComponentLink1Description: Manufacturer URL; ComponentLink1URL: http://www.microchip.com/; ComponentLink2Description: Datasheet; ComponentLink2URL: http://ww1.microchip.com/downloads/en/DeviceDoc/41319B.pdf; ComponentLink3Description: Package Specification; ComponentLink3URL: http://www.microchip.com/stellent/groups/techpub_sg/documents/packagingspec/en012702.pdf
footprint PDIP300-P8 (DIP, 8-Leads, Row Spacing 7.62mm, Pitch 2.54mm, Body 9.5x6.6mm)
pins: 1 VDD (power), 2 RB5/OSC1/CLKIN (io), 3 RB4/OSC2 (io), 4 RB3/~{MCLR}/VPP (io), 5 RB2/T0CKI (io), 6 RB1/ICSPCLK (io), 7 RB0/ICSPDAT (io), 8 VSS (power)

## PIC12F519-I/SN
designator U?
8-bit Flash Microcontroller, 1K (x12-Bit words) Program Memory, 105 Bytes Data Memory, 8-Pin SOIC, Industrial Temperature; Manufacturer: Microchip; PartNumber: PIC12F519-I/SN; DatasheetVersion: revB, Sep-2008; PackageVersion: revBB, Aug-2009; PackageReference: SOIC-SN8; PackageDescription: 8-Lead Plastic Small Outline (SN) - Narrow, 3.90mm Body [SOIC]; Code_JEDEC: MS-012; Code_IPC: SOIC127P600-8; ComponentLink1Description: Manufacturer URL; ComponentLink1URL: http://www.microchip.com/; ComponentLink2Description: Datasheet; ComponentLink2URL: http://ww1.microchip.com/downloads/en/DeviceDoc/41319B.pdf; ComponentLink3Description: Package Specification; ComponentLink3URL: http://www.microchip.com/stellent/groups/techpub_sg/documents/packagingspec/en012702.pdf
footprint SOIC-SN8_N (SOIC, 8-Leads, Body 4.9x3.8mm, Pitch 1.27mm, IPC Medium Density)
footprint SOIC-SN8_L (SOIC, 8-Leads, Body 4.9x3.8mm, Pitch 1.27mm, IPC High Density)
footprint SOIC-SN8_M (SOIC, 8-Leads, Body 4.9x3.8mm, Pitch 1.27mm, IPC Low Density)
pins: 1 VDD (power), 2 RB5/OSC1/CLKIN (io), 3 RB4/OSC2 (io), 4 RB3/~{MCLR}/VPP (io), 5 RB2/T0CKI (io), 6 RB1/ICSPCLK (io), 7 RB0/ICSPDAT (io), 8 VSS (power)

## PIC12F519T-E/SN
designator U?
8-bit Flash Microcontroller, 1K (x12-Bit words) Program Memory, 105 Bytes Data Memory, 8-Pin SOIC, Extended Temperature, Tape and Reel; Manufacturer: Microchip; PartNumber: PIC12F519T-E/SN; DatasheetVersion: revB, Sep-2008; PackageVersion: revBB, Aug-2009; PackageReference: SOIC-SN8; PackageDescription: 8-Lead Plastic Small Outline (SN) - Narrow, 3.90mm Body [SOIC]; Code_JEDEC: MS-012; Code_IPC: SOIC127P600-8; ComponentLink1Description: Manufacturer URL; ComponentLink1URL: http://www.microchip.com/; ComponentLink2Description: Datasheet; ComponentLink2URL: http://ww1.microchip.com/downloads/en/DeviceDoc/41319B.pdf; ComponentLink3Description: Package Specification; ComponentLink3URL: http://www.microchip.com/stellent/groups/techpub_sg/documents/packagingspec/en012702.pdf
footprint SOIC-SN8_N (SOIC, 8-Leads, Body 4.9x3.8mm, Pitch 1.27mm, IPC Medium Density)
footprint SOIC-SN8_L (SOIC, 8-Leads, Body 4.9x3.8mm, Pitch 1.27mm, IPC High Density)
footprint SOIC-SN8_M (SOIC, 8-Leads, Body 4.9x3.8mm, Pitch 1.27mm, IPC Low Density)
pins: 1 VDD (power), 2 RB5/OSC1/CLKIN (io), 3 RB4/OSC2 (io), 4 RB3/~{MCLR}/VPP (io), 5 RB2/T0CKI (io), 6 RB1/ICSPCLK (io), 7 RB0/ICSPDAT (io), 8 VSS (power)

## PIC12F519T-I/MC
designator U?
8-bit Flash Microcontroller, 1K (x12-Bit words) Program Memory, 105 Bytes Data Memory, 8-Pin DFN, Industrial Temperature, Tape and Reel; Manufacturer: Microchip; PartNumber: PIC12F519T-I/MC; DatasheetVersion: revB, Sep-2008; PackageVersion: revBB, Aug-2009; PackageReference: DFN-MC8; PackageDescription: 8-Lead Plastic Dual Flat, No Lead Package (MC) - 2x3x0.9mm Body [DFN]; ComponentLink1Description: Manufacturer URL; ComponentLink1URL: http://www.microchip.com/; ComponentLink2Description: Datasheet; ComponentLink2URL: http://ww1.microchip.com/downloads/en/DeviceDoc/41319B.pdf; ComponentLink3Description: Package Specification; ComponentLink3URL: http://www.microchip.com/stellent/groups/techpub_sg/documents/packagingspec/en012702.pdf
footprint DFN-MC8 (SON, 8-Leads, Body 2x3mm, Pitch 0.5mm, Microchip Recommended)
pins: 1 VDD (power), 2 RB5/OSC1/CLKIN (io), 3 RB4/OSC2 (io), 4 RB3/~{MCLR}/VPP (io), 5 RB2/T0CKI (io), 6 RB1/ICSPCLK (io), 7 RB0/ICSPDAT (io), 8 VSS (power), 9 Thermal Pad

## PIC12F519T-I/MS
designator U?
8-bit Flash Microcontroller, 1K (x12-Bit words) Program Memory, 105 Bytes Data Memory, 8-Pin MSOP, Industrial Temperature, Tape and Reel; Manufacturer: Microchip; PartNumber: PIC12F519T-I/MS; DatasheetVersion: revB, Sep-2008; PackageVersion: revBB, Aug-2009; PackageReference: MSOP-MS8; PackageDescription: 8-Lead Plastic Micro Small Outline Package (MS) [MSOP]; ComponentLink1Description: Manufacturer URL; ComponentLink1URL: http://www.microchip.com/; ComponentLink2Description: Datasheet; ComponentLink2URL: http://ww1.microchip.com/downloads/en/DeviceDoc/41319B.pdf; ComponentLink3Description: Package Specification; ComponentLink3URL: http://www.microchip.com/stellent/groups/techpub_sg/documents/packagingspec/en012702.pdf
footprint MSOP-MS8_N (TSOP, 8-Leads, Body 3x3mm, Pitch 0.65mm, IPC Medium Density)
footprint MSOP-MS8_L (TSOP, 8-Leads, Body 3x3mm, Pitch 0.65mm, IPC High Density)
footprint MSOP-MS8_M (TSOP, 8-Leads, Body 3x3mm, Pitch 0.65mm, IPC Low Density)
pins: 1 VDD (power), 2 RB5/OSC1/CLKIN (io), 3 RB4/OSC2 (io), 4 RB3/~{MCLR}/VPP (io), 5 RB2/T0CKI (io), 6 RB1/ICSPCLK (io), 7 RB0/ICSPDAT (io), 8 VSS (power)

## PIC12F519T-I/SN
designator U?
8-bit Flash Microcontroller, 1K (x12-Bit words) Program Memory, 105 Bytes Data Memory, 8-Pin SOIC, Industrial Temperature, Tape and Reel; Manufacturer: Microchip; PartNumber: PIC12F519T-I/SN; DatasheetVersion: revB, Sep-2008; PackageVersion: revBB, Aug-2009; PackageReference: SOIC-SN8; PackageDescription: 8-Lead Plastic Small Outline (SN) - Narrow, 3.90mm Body [SOIC]; Code_JEDEC: MS-012; Code_IPC: SOIC127P600-8; ComponentLink1Description: Manufacturer URL; ComponentLink1URL: http://www.microchip.com/; ComponentLink2Description: Datasheet; ComponentLink2URL: http://ww1.microchip.com/downloads/en/DeviceDoc/41319B.pdf; ComponentLink3Description: Package Specification; ComponentLink3URL: http://www.microchip.com/stellent/groups/techpub_sg/documents/packagingspec/en012702.pdf
footprint SOIC-SN8_N (SOIC, 8-Leads, Body 4.9x3.8mm, Pitch 1.27mm, IPC Medium Density)
footprint SOIC-SN8_L (SOIC, 8-Leads, Body 4.9x3.8mm, Pitch 1.27mm, IPC High Density)
footprint SOIC-SN8_M (SOIC, 8-Leads, Body 4.9x3.8mm, Pitch 1.27mm, IPC Low Density)
pins: 1 VDD (power), 2 RB5/OSC1/CLKIN (io), 3 RB4/OSC2 (io), 4 RB3/~{MCLR}/VPP (io), 5 RB2/T0CKI (io), 6 RB1/ICSPCLK (io), 7 RB0/ICSPDAT (io), 8 VSS (power)

## PIC12F529T39A-I/ST
designator U?
8-Bit Flash Microcontroller, 8 MHz, 6 I/O, -40 to 85 degC, 14-pin TSSOP (ST14), Tube; Manufacturer: Microchip; PartNumber: PIC12F529T39A-I/ST; EEPROM Data Memory (bytes): 64; I/O Pins: 6; Internal Oscillator: 8 MHz; Max. CPU Speed MHz: 8; Operation Voltage Range: 2V - 3.7V; Program Memory KBytes: 2.3; Program Memory KWords: 1.5; RAM: 201; Timers: 1 - 8-bit; DatasheetVersion: Rev. A; PackageVersion: C04-087C, 12/2012; PackageReference: TSSOP-ST14; PackageDescription: 14-Lead Plastic Thin Shrink Small Outline, 5 x 4.4 mm Body, 0.65 mm Pitch; Supplier 1: Digi-Key; Supplier Part Number 1: PIC12F529T39A-I/ST-ND; Supplier 2: Newark; Supplier Part Number 2: 79T6341; Supplier 3: Mouser; Supplier Part Number 3: 579-PIC12F529T39AIST; Memory Type: Flash; Packing: TUBE; RoHS: TRUE; Mounting Technology: Surface Mount; ComponentLink1Description: Datasheet; ComponentLink1URL: http://ww1.microchip.com/downloads/en/DeviceDoc/41635A.pdf; ComponentLink2Description: Package Specification; ComponentLink2URL: http://www.microchip.com/stellent/groups/techpub_sg/documents/packagingspec/en012702.pdf; ComponentLink3Description: URL Link1; ComponentLink3URL: Product URL:http://www.microchip.com/datasheet/PIC12F529T39A
footprint MCHP-TSSOP-ST14_N (SOP, 14-Leads, Body 5x4.4mm, Pitch 0.65mm, IPC Medium Density)
footprint MCHP-TSSOP-ST14_L (SOP, 14-Leads, Body 5x4.4mm, Pitch 0.65mm, IPC High Density)
footprint MCHP-TSSOP-ST14_M (SOP, 14-Leads, Body 5x4.4mm, Pitch 0.65mm, IPC Low Density)
pins: 1 VDD (power) "Positive supply for logic and I/O pins.", 2 GP5/OSC1/CLKIN (io), 3 GP4/OSC2 (io), 4 GP3/~{MCLR}/VPP (in), 5 VDDRF (power) "RF Power Supply.", 6 CTRL (in) "Configuration Selection and Configuration Clock.", 7 RFOUT (out) "Transmitter RF output.", 8 VSSRF (power) "RF Power Supply.", 9 DATA (io) "Configuration Data and Transmit Data.", 10 XTAL "Crystal Oscillator.", 11 GP2/T0CKI (io), 12 GP1/ICSPCLK (io), 13 GP0/ICSPDAT (io), 14 VSS (power) "Ground reference for logic and I/O pins."

## PIC12F529T48A-I/ST
designator U?
8-Bit Flash Microcontroller, 8 MHz, 6 I/O, -40 to 85 degC, 14-pin TSSOP (ST14), Tube; Manufacturer: Microchip; PartNumber: PIC12F529T48A-I/ST; I/O Pins: 6; Internal Oscillator: 4 MHz, 8 MHz; Max. CPU Speed MHz: 8 MHz; Operation Voltage Range: 2V - 3.7V; Program Memory KBytes: 2.3; Program Memory KWords: 1.5; Timers: 1; DatasheetVersion: Rev. A; PackageVersion: C04-087C, 12/2012; PackageReference: TSSOP-ST14; PackageDescription: 14-Lead Plastic Thin Shrink Small Outline, 5 x 4.4 mm Body, 0.65 mm Pitch; Supplier 1: Digi-Key; Supplier Part Number 1: PIC12F529T48A-I/ST-ND; Supplier 2: Newark; Supplier Part Number 2: 83T7192; Supplier 3: Mouser; Supplier Part Number 3: 579-PIC12F529T48AIST; Memory Type: Flash; Packing: TUBE; RoHS: TRUE; Mounting Technology: Surface Mount; ComponentLink1Description: Datasheet; ComponentLink1URL: http://ww1.microchip.com/downloads/en/DeviceDoc/41634A.pdf; ComponentLink2Description: Package Specification; ComponentLink2URL: http://www.microchip.com/stellent/groups/techpub_sg/documents/packagingspec/en012702.pdf; ComponentLink3Description: URL Link1; ComponentLink3URL: Product URL:http://www.microchip.com/datasheet/PIC12F529T48A
footprint MCHP-TSSOP-ST14_N (SOP, 14-Leads, Body 5x4.4mm, Pitch 0.65mm, IPC Medium Density)
footprint MCHP-TSSOP-ST14_L (SOP, 14-Leads, Body 5x4.4mm, Pitch 0.65mm, IPC High Density)
footprint MCHP-TSSOP-ST14_M (SOP, 14-Leads, Body 5x4.4mm, Pitch 0.65mm, IPC Low Density)
pins: 1 VDD (power) "Positive supply for logic and I/O pins.", 2 GB5/OSC1/CLKIN (io), 3 GB4/OSC2 (io), 4 GB3/~{MCLR}/VPP (in), 5 VDDRF (power) "RF Power Supply.", 6 CTRL (in) "Configuration Selection and Configuration Clock.", 7 RFOUT (out) "Transmitter RF output.", 8 VSSRF (power) "RF Power Supply.", 9 DATA (io) "Configuration Data and Transmit Data.", 10 XTAL "Crystal Oscillator.", 11 GB2/T0CKI (io), 12 GB1/ICSPCLK (io), 13 GB0/ICSPDAT (io), 14 VSS (power) "Ground reference for logic and I/O pins."

## PIC12F529T48AT-I/ST
designator U?
8-Bit Flash Microcontroller, 8 MHz, 6 I/O, -40 to 85 degC, 14-pin TSSOP (ST14), Tape and Reel; Manufacturer: Microchip; PartNumber: PIC12F529T48AT-I/ST; I/O Pins: 6; Internal Oscillator: 4 MHz, 8 MHz; Max. CPU Speed MHz: 8 MHz; Operation Voltage Range: 2V - 3.7V; Packing: T/R; Program Memory KBytes: 2.3; Program Memory KWords: 1.5; Timers: 1; DatasheetVersion: Rev. A; PackageVersion: C04-087C, 12/2012; PackageReference: TSSOP-ST14; PackageDescription: 14-Lead Plastic Thin Shrink Small Outline, 5 x 4.4 mm Body, 0.65 mm Pitch; Supplier 1: Digi-Key; Supplier Part Number 1: PIC12F529T48AT-I/ST-ND; Supplier 2: Mouser; Supplier Part Number 2: 579-PC12F529T48ATIST; Memory Type: Flash; RoHS: TRUE; Mounting Technology: Surface Mount; ComponentLink1Description: Datasheet; ComponentLink1URL: http://ww1.microchip.com/downloads/en/DeviceDoc/41634A.pdf; ComponentLink2Description: Package Specification; ComponentLink2URL: http://www.microchip.com/stellent/groups/techpub_sg/documents/packagingspec/en012702.pdf; ComponentLink3Description: URL Link1; ComponentLink3URL: Product URL:http://www.microchip.com/datasheet/PIC12F529T48A
footprint MCHP-TSSOP-ST14_N (SOP, 14-Leads, Body 5x4.4mm, Pitch 0.65mm, IPC Medium Density)
footprint MCHP-TSSOP-ST14_L (SOP, 14-Leads, Body 5x4.4mm, Pitch 0.65mm, IPC High Density)
footprint MCHP-TSSOP-ST14_M (SOP, 14-Leads, Body 5x4.4mm, Pitch 0.65mm, IPC Low Density)
pins: 1 VDD (power) "Positive supply for logic and I/O pins.", 2 GB5/OSC1/CLKIN (io), 3 GB4/OSC2 (io), 4 GB3/~{MCLR}/VPP (in), 5 VDDRF (power) "RF Power Supply.", 6 CTRL (in) "Configuration Selection and Configuration Clock.", 7 RFOUT (out) "Transmitter RF output.", 8 VSSRF (power) "RF Power Supply.", 9 DATA (io) "Configuration Data and Transmit Data.", 10 XTAL "Crystal Oscillator.", 11 GB2/T0CKI (io), 12 GB1/ICSPCLK (io), 13 GB0/ICSPDAT (io), 14 VSS (power) "Ground reference for logic and I/O pins."

## PIC12F609-E/MD
designator U?
Flash-Based 8-Bit CMOS Microcontroller, 1K (x14-Bit words) Program Memory, 64 Bytes Data Memory, 8-Pin DFN, Extended Temperature; Manufacturer: Microchip; PartNumber: PIC12F609-E/MD; DatasheetVersion: revC, Sep-2009; PackageVersion: revBB, Aug-2009; PackageReference: DFN-MD8; PackageDescription: 8-Lead Plastic Dual Flat, No Lead Package (MD) - 4x4x0.9mm Body [DFN]; ComponentLink1Description: Manufacturer URL; ComponentLink1URL: http://www.microchip.com/; ComponentLink2Description: Datasheet; ComponentLink2URL: http://ww1.microchip.com/downloads/en/DeviceDoc/41302c.pdf; ComponentLink3Description: Package Specification; ComponentLink3URL: http://www.microchip.com/stellent/groups/techpub_sg/documents/packagingspec/en012702.pdf
footprint DFN-MD8 (SON, 8-Leads, Body 4x4mm, Pitch 0.8mm, Microchip Recommended)
pins: 1 VDD (power), 2 GP5/T1CKI/OSC1/CLKIN (io), 3 GP4/CIN1-/~{T1G}/OSC2/CLKOUT (io), 4 GP3/~{MCLR}/VPP (io), 5 GP2/T0CKI/INT/COUT (io), 6 GP1/CIN0-/ICSPCLK (io), 7 GP0/CIN+/ICSPDAT (io), 8 VSS (power), 9 Thermal Pad

## PIC12F609-E/MS
designator U?
Flash-Based 8-Bit CMOS Microcontroller, 1K (x14-Bit words) Program Memory, 64 Bytes Data Memory, 8-Pin MSOP, Extended Temperature; Manufacturer: Microchip; PartNumber: PIC12F609-E/MS; DatasheetVersion: revC, Sep-2009; PackageVersion: revBB, Aug-2009; PackageReference: MSOP-MS8; PackageDescription: 8-Lead Plastic Micro Small Outline Package (MS) [MSOP]; ComponentLink1Description: Manufacturer URL; ComponentLink1URL: http://www.microchip.com/; ComponentLink2Description: Datasheet; ComponentLink2URL: http://ww1.microchip.com/downloads/en/DeviceDoc/41302c.pdf; ComponentLink3Description: Package Specification; ComponentLink3URL: http://www.microchip.com/stellent/groups/techpub_sg/documents/packagingspec/en012702.pdf
footprint MSOP-MS8_N (TSOP, 8-Leads, Body 3x3mm, Pitch 0.65mm, IPC Medium Density)
footprint MSOP-MS8_L (TSOP, 8-Leads, Body 3x3mm, Pitch 0.65mm, IPC High Density)
footprint MSOP-MS8_M (TSOP, 8-Leads, Body 3x3mm, Pitch 0.65mm, IPC Low Density)
pins: 1 VDD (power), 2 GP5/T1CKI/OSC1/CLKIN (io), 3 GP4/CIN1-/~{T1G}/OSC2/CLKOUT (io), 4 GP3/~{MCLR}/VPP (io), 5 GP2/T0CKI/INT/COUT (io), 6 GP1/CIN0-/ICSPCLK (io), 7 GP0/CIN+/ICSPDAT (io), 8 VSS (power)

## PIC12F609-E/P
designator U?
Flash-Based 8-Bit CMOS Microcontroller, 1K (x14-Bit words) Program Memory, 64 Bytes Data Memory, 8-Pin PDIP, Extended Temperature; Manufacturer: Microchip; PartNumber: PIC12F609-E/P; DatasheetVersion: revC, Sep-2009; PackageVersion: revBB, Aug-2009; PackageReference: PDIP300-P8; PackageDescription: 8-Lead Plastic Dual In-Line (P) - 300 mil Body [PDIP]; Code_JEDEC: MS-001; ComponentLink1Description: Manufacturer URL; ComponentLink1URL: http://www.microchip.com/; ComponentLink2Description: Datasheet; ComponentLink2URL: http://ww1.microchip.com/downloads/en/DeviceDoc/41302c.pdf; ComponentLink3Description: Package Specification; ComponentLink3URL: http://www.microchip.com/stellent/groups/techpub_sg/documents/packagingspec/en012702.pdf
footprint PDIP300-P8 (DIP, 8-Leads, Row Spacing 7.62mm, Pitch 2.54mm, Body 9.5x6.6mm)
pins: 1 VDD (power), 2 GP5/T1CKI/OSC1/CLKIN (io), 3 GP4/CIN1-/~{T1G}/OSC2/CLKOUT (io), 4 GP3/~{MCLR}/VPP (io), 5 GP2/T0CKI/INT/COUT (io), 6 GP1/CIN0-/ICSPCLK (io), 7 GP0/CIN+/ICSPDAT (io), 8 VSS (power)

## PIC12F609-E/SN
designator U?
Flash-Based 8-Bit CMOS Microcontroller, 1K (x14-Bit words) Program Memory, 64 Bytes Data Memory, 8-Pin SOIC, Extended Temperature; Manufacturer: Microchip; PartNumber: PIC12F609-E/SN; DatasheetVersion: revC, Sep-2009; PackageVersion: revBB, Aug-2009; PackageReference: SOIC-SN8; PackageDescription: 8-Lead Plastic Small Outline (SN) - Narrow, 3.90mm Body [SOIC]; Code_JEDEC: MS-012; Code_IPC: SOIC127P600-8; ComponentLink1Description: Manufacturer URL; ComponentLink1URL: http://www.microchip.com/; ComponentLink2Description: Datasheet; ComponentLink2URL: http://ww1.microchip.com/downloads/en/DeviceDoc/41302c.pdf; ComponentLink3Description: Package Specification; ComponentLink3URL: http://www.microchip.com/stellent/groups/techpub_sg/documents/packagingspec/en012702.pdf
footprint SOIC-SN8_N (SOIC, 8-Leads, Body 4.9x3.8mm, Pitch 1.27mm, IPC Medium Density)
footprint SOIC-SN8_L (SOIC, 8-Leads, Body 4.9x3.8mm, Pitch 1.27mm, IPC High Density)
footprint SOIC-SN8_M (SOIC, 8-Leads, Body 4.9x3.8mm, Pitch 1.27mm, IPC Low Density)
pins: 1 VDD (power), 2 GP5/T1CKI/OSC1/CLKIN (io), 3 GP4/CIN1-/~{T1G}/OSC2/CLKOUT (io), 4 GP3/~{MCLR}/VPP (io), 5 GP2/T0CKI/INT/COUT (io), 6 GP1/CIN0-/ICSPCLK (io), 7 GP0/CIN+/ICSPDAT (io), 8 VSS (power)